# Altium schematic symbol library Honeywell.SchLib: 1 symbol
Pins are listed as number, name and electrical type; pins without a type are passive.

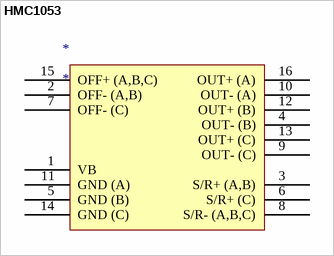
[diagram p0: symbol HMC1053]

## HMC1053
designator *
pins: 1 VB, 2 OFF- (A,B), 3 S/R+ (A,B), 4 OUT- (B), 5 GND (B), 6 S/R+ (C), 7 OFF- (C), 8 S/R- (A,B,C), 9 OUT- (C), 10 OUT- (A), 11 GND (A), 12 OUT+ (B), 13 OUT+ (C), 14 GND (C), 15 OFF+ (A,B,C), 16 OUT+ (A)